# Altium integrated library Linear Technology Power Management Switching Regulator LTC1174-LTC3901.IntLib: 2647 symbols (part 257 of 364)
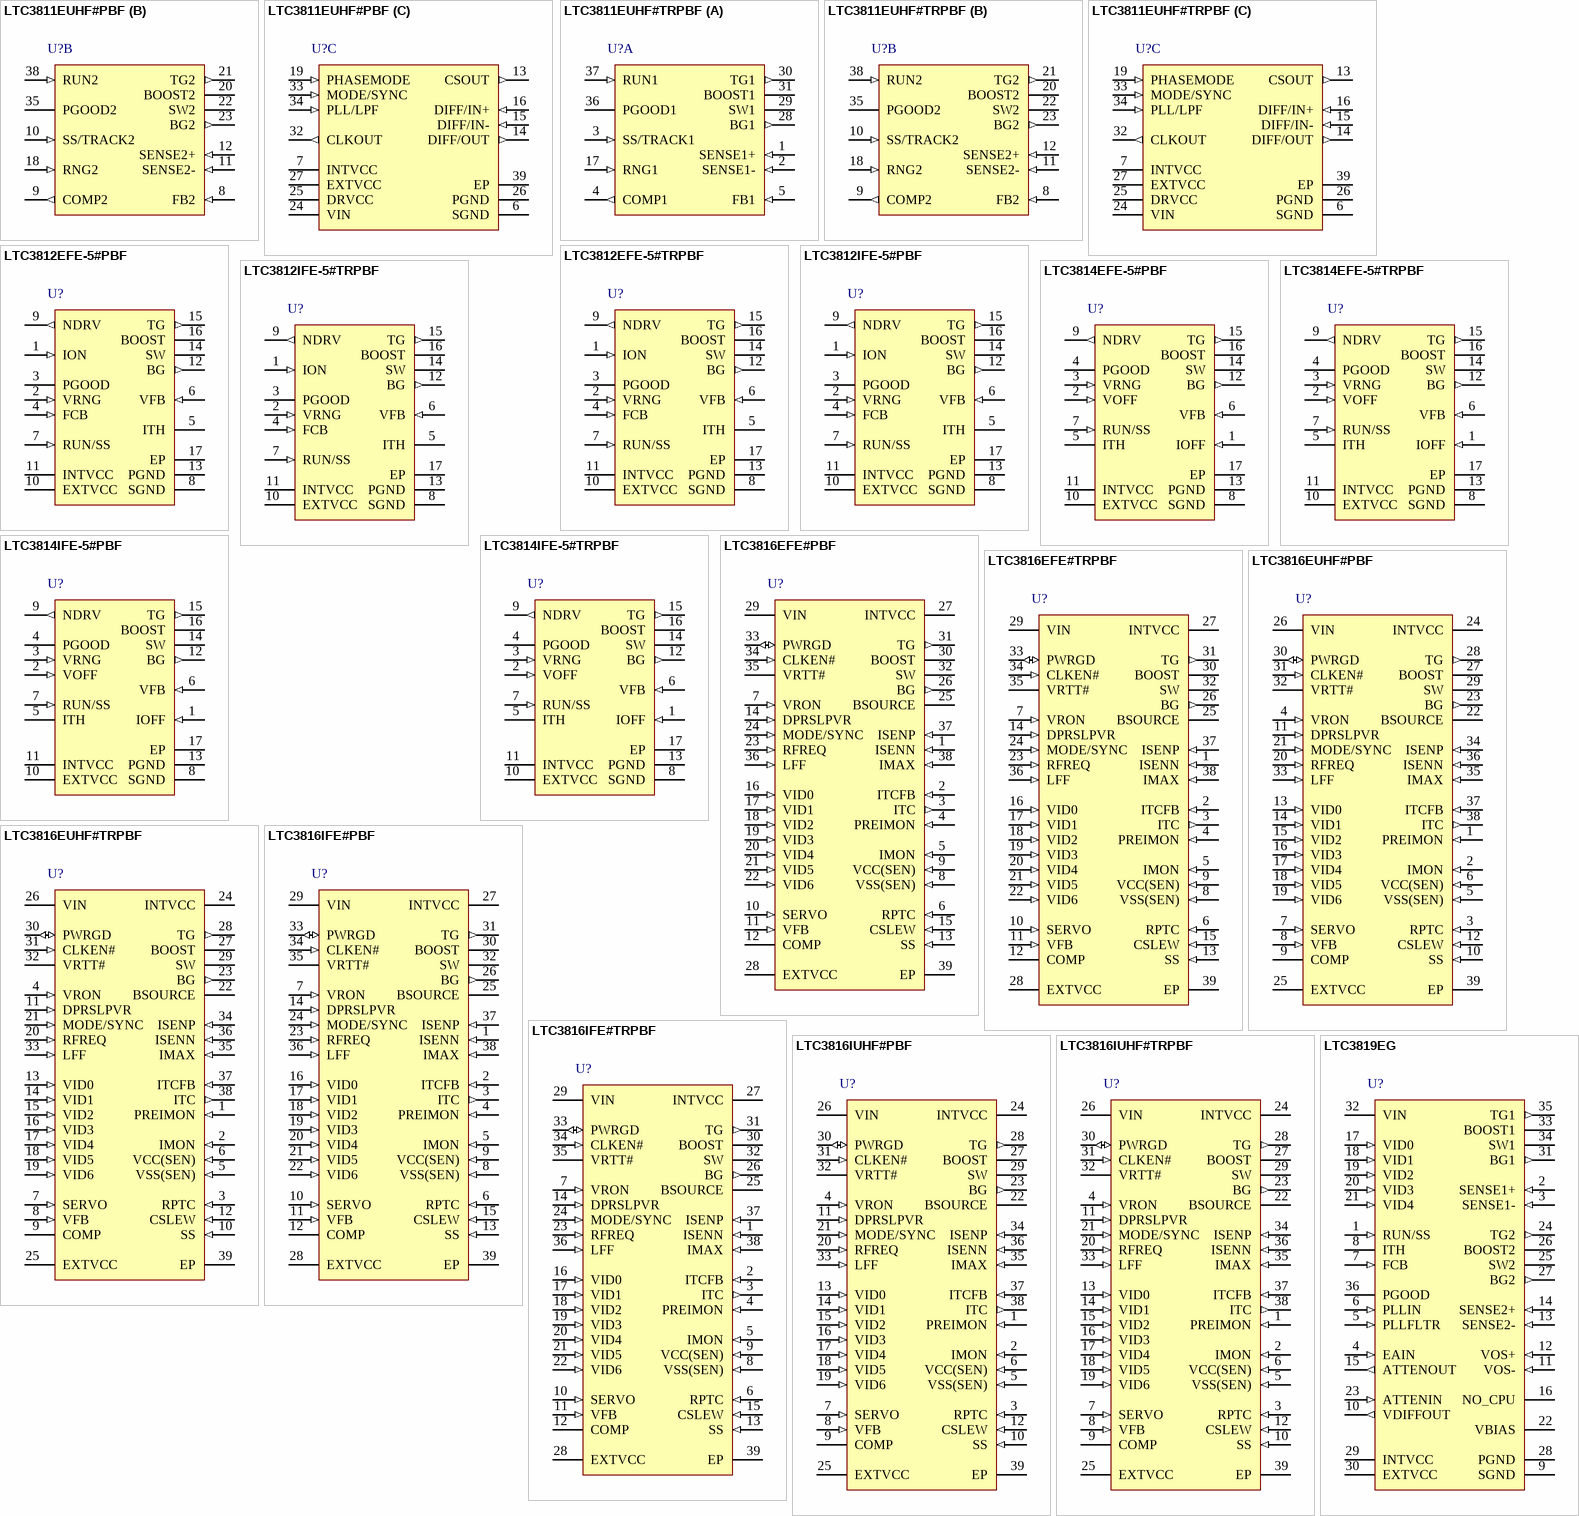
[diagram p248: symbols LTC3811EUHF#PBF to LTC3819EG]

## LTC3814IFE-5#PBF
designator U?
Current Mode Synchronous Step-Up Controller, 16-pin SOP (FE-16-EPV-BA), -40 to 125 degC, Pb-Free; Manufacturer: Linear Technology; PartNumber: LTC3814IFE-5#PBF; Frequency Sync Range: 100kHz - 1MHz; Number of Outputs: 1; DatasheetVersion: Rev. C; PackageVersion: Rev. I, 05/2011; PackageReference: FE-16; PackageDescription: 16-Pin Plastic TSSOP, Body 5 x 4.4 mm, Pitch 0.65 mm; Supplier 1: Digi-Key; Supplier Part Number 1: LTC3814IFE-5#PBF-ND; Supplier 2: Newark; Supplier Part Number 2: 01N6414; RoHS: TRUE; Mounting Technology: Surface Mount; ComponentLink1Description: Manufacturer URL; ComponentLink1URL: http://www.linear.com/; ComponentLink2Description: Datasheet; ComponentLink2URL: http://cds.linear.com/docs/en/datasheet/38145fc.pdf; ComponentLink3Description: Package Specification; ComponentLink3URL: http://cds.linear.com/docs/en/packaging/05081663_J_FE16(BA).pdf
footprint LT-FE-16-EPV-BA_N (SOP, 16-Leads, Body 5x4.4mm, Pitch 0.65mm, Thermal Pad 2.74x2.74mm, IPC Medium Density)
footprint LT-FE-16-EPV-BA_L (SOP, 16-Leads, Body 5x4.4mm, Pitch 0.65mm, Thermal Pad 2.74x2.74mm, IPC High Density)
footprint LT-FE-16-EPV-BA_M (SOP, 16-Leads, Body 5x4.4mm, Pitch 0.65mm, Thermal Pad 2.74x2.74mm, IPC Low Density)
pins: 1 IOFF (in) "Off-Time Current Input. Tie a resistor from VOUT to this pin to set the one-shot timer current and thereby set the switching frequency.", 2 VOFF (in) "Off-Time Voltage Input. Voltage trip point for the on-time comparator. Tying this pin to an external resistive divider from the input makes the off-time proportional to VIN. The comparator defaults to 0.7V when the pin is (See Datasheet)", 3 VRNG (in) "Sense Voltage Limit Set. The voltage at this pin sets the nominal sense voltage at maximum output current and can be set from 0.5V to 2V by a resistive divider from INTVCC. The nominal sense voltage defaults to 95mV when (See Datasheet)", 4 PGOOD (oc) "Power Good Output. Open-drain logic output that is pulled to ground when the output voltage is not between +/-10% of the regulation point. The output voltage must be out of regulation for at least 125us before the power good (See Datasheet)", 5 ITH "Error Amplifier Compensation Point and Current Control Threshold. The current comparator threshold increases with control voltage. The voltage ranges from 0V to 2.6V with 1.2V corresponding to zero sense voltage (zero (See Datasheet)", 6 VFB (in) "Feedback Input. Connect VFB through a resistor divider network to VOUT to set the output voltage.", 7 RUN/SS (in) "RUN/Soft-Start Input. For soft-start, a capacitor to ground at this pin sets the ramp rate of the maximum current sense threshold. Pulling this pin below 0.9V will shut down the LTC3814-5, turn off both of the external (See Datasheet)", 8 SGND (power) "Signal Ground. All small-signal components should connect to this ground and eventually connect to PGND at one point.", 9 NDRV (out) "Drive Output for External Pass Device of the Linear Regulator for INTVCC. Connect to the gate of an external NMOS pass device and a pull-up resistor to the input voltage VIN or the output voltage VOUT.", 10 EXTVCC (power) "External Driver Supply Voltage. When this voltage exceeds 4.7V, an internal switch connects this pin to INTVCC through an LDO and turns off the external MOSFET connected to NDRV, so that controller and gate drive are drawn (See Datasheet)", 11 INTVCC (power) "Main Supply and Driver Supply Pin. All internal circuits and bottom gate output driver are powered from this pin. INTVCC should be bypassed to SGND and PGND with a low ESR (X5R or better) 1uF capacitor in close proximity to (See Datasheet)", 12 BG (out) "Bottom Gate Drive. The BG pin drives the gate of the bottom N-channel main switch MOSFET. This pin swings from PGND to INTVCC.", 13 PGND (power) "Bottom Gate Return. This pin connects to the source of the pull-down MOSFET in the BG driver and is normally connected to ground.", 14 SW "Switch Node Connection to Inductor and Bootstrap Capacitor. Voltage swing at this pin is from a Schottky diode (external) voltage drop below ground to VOUT.", 15 TG (out) "Top Gate Drive. The TG pin drives the gate of the top N-channel synchronous switch MOSFET. The TG driver draws power from the BOOST pin and returns to the SW pin, providing true floating drive to the top MOSFET.", 16 BOOST "Top Gate Driver Supply. The BOOST pin supplies power to the floating TG driver. BOOST should be bypassed to SW with a low ESR (X5R or better) 0.1uF capacitor. An additional fast recovery diode from INTVCC to the BOOST pin (See Datasheet)", 17 EP (power) "Ground. The Exposed Pad must be soldered to PCB ground."

## LTC3814IFE-5#TRPBF
designator U?
Current Mode Synchronous Step-Up Controller, 16-pin SOP (FE-16-EPV-BA), -40 to 125 degC, Pb-Free, Tape and Reel; Manufacturer: Linear Technology; PartNumber: LTC3814IFE-5#TRPBF; Frequency Sync Range: 100kHz - 1MHz; Number of Outputs: 1; DatasheetVersion: Rev. C; PackageVersion: Rev. I, 05/2011; PackageReference: FE-16; PackageDescription: 16-Pin Plastic TSSOP, Body 5 x 4.4 mm, Pitch 0.65 mm; Supplier 1: Digi-Key; Supplier Part Number 1: LTC3814IFE-5#TRPBF-ND; Supplier 2: Newark; Supplier Part Number 2: 01N6415; Packing: Tape and Reel; RoHS: TRUE; Mounting Technology: Surface Mount; ComponentLink1Description: Manufacturer URL; ComponentLink1URL: http://www.linear.com/; ComponentLink2Description: Datasheet; ComponentLink2URL: http://cds.linear.com/docs/en/datasheet/38145fc.pdf; ComponentLink3Description: Package Specification; ComponentLink3URL: http://cds.linear.com/docs/en/packaging/05081663_J_FE16(BA).pdf
footprint LT-FE-16-EPV-BA_N (SOP, 16-Leads, Body 5x4.4mm, Pitch 0.65mm, Thermal Pad 2.74x2.74mm, IPC Medium Density)
footprint LT-FE-16-EPV-BA_L (SOP, 16-Leads, Body 5x4.4mm, Pitch 0.65mm, Thermal Pad 2.74x2.74mm, IPC High Density)
footprint LT-FE-16-EPV-BA_M (SOP, 16-Leads, Body 5x4.4mm, Pitch 0.65mm, Thermal Pad 2.74x2.74mm, IPC Low Density)
pins: 1 IOFF (in) "Off-Time Current Input. Tie a resistor from VOUT to this pin to set the one-shot timer current and thereby set the switching frequency.", 2 VOFF (in) "Off-Time Voltage Input. Voltage trip point for the on-time comparator. Tying this pin to an external resistive divider from the input makes the off-time proportional to VIN. The comparator defaults to 0.7V when the pin is (See Datasheet)", 3 VRNG (in) "Sense Voltage Limit Set. The voltage at this pin sets the nominal sense voltage at maximum output current and can be set from 0.5V to 2V by a resistive divider from INTVCC. The nominal sense voltage defaults to 95mV when (See Datasheet)", 4 PGOOD (oc) "Power Good Output. Open-drain logic output that is pulled to ground when the output voltage is not between +/-10% of the regulation point. The output voltage must be out of regulation for at least 125us before the power good (See Datasheet)", 5 ITH "Error Amplifier Compensation Point and Current Control Threshold. The current comparator threshold increases with control voltage. The voltage ranges from 0V to 2.6V with 1.2V corresponding to zero sense voltage (zero (See Datasheet)", 6 VFB (in) "Feedback Input. Connect VFB through a resistor divider network to VOUT to set the output voltage.", 7 RUN/SS (in) "RUN/Soft-Start Input. For soft-start, a capacitor to ground at this pin sets the ramp rate of the maximum current sense threshold. Pulling this pin below 0.9V will shut down the LTC3814-5, turn off both of the external (See Datasheet)", 8 SGND (power) "Signal Ground. All small-signal components should connect to this ground and eventually connect to PGND at one point.", 9 NDRV (out) "Drive Output for External Pass Device of the Linear Regulator for INTVCC. Connect to the gate of an external NMOS pass device and a pull-up resistor to the input voltage VIN or the output voltage VOUT.", 10 EXTVCC (power) "External Driver Supply Voltage. When this voltage exceeds 4.7V, an internal switch connects this pin to INTVCC through an LDO and turns off the external MOSFET connected to NDRV, so that controller and gate drive are drawn (See Datasheet)", 11 INTVCC (power) "Main Supply and Driver Supply Pin. All internal circuits and bottom gate output driver are powered from this pin. INTVCC should be bypassed to SGND and PGND with a low ESR (X5R or better) 1uF capacitor in close proximity to (See Datasheet)", 12 BG (out) "Bottom Gate Drive. The BG pin drives the gate of the bottom N-channel main switch MOSFET. This pin swings from PGND to INTVCC.", 13 PGND (power) "Bottom Gate Return. This pin connects to the source of the pull-down MOSFET in the BG driver and is normally connected to ground.", 14 SW "Switch Node Connection to Inductor and Bootstrap Capacitor. Voltage swing at this pin is from a Schottky diode (external) voltage drop below ground to VOUT.", 15 TG (out) "Top Gate Drive. The TG pin drives the gate of the top N-channel synchronous switch MOSFET. The TG driver draws power from the BOOST pin and returns to the SW pin, providing true floating drive to the top MOSFET.", 16 BOOST "Top Gate Driver Supply. The BOOST pin supplies power to the floating TG driver. BOOST should be bypassed to SW with a low ESR (X5R or better) 0.1uF capacitor. An additional fast recovery diode from INTVCC to the BOOST pin (See Datasheet)", 17 EP (power) "Ground. The Exposed Pad must be soldered to PCB ground."

## LTC3816EFE#PBF
designator U?
Single-Phase Wide VIN Range DC/DC Controller for Intel IMVP-6 / IMVP-6.5 CPUs, 38-pin SOP (FE-38-EPV-AA), -40 to 125 degC, Pb-Free; Manufacturer: Linear Technology; PartNumber: LTC3816EFE#PBF; Frequency Sync Range: 150kHz - 550kHz; Number of Outputs: 1; PackageVersion: Rev. C, 09/2010; PackageReference: FE-38; PackageDescription: 38-Pin Plastic TSSOP, Body 9.7 x 4.4 mm, Pitch 0.5 mm; Supplier 1: Digi-Key; Supplier Part Number 1: LTC3816EFE#PBF-ND; Supplier 2: Farnell; Supplier Part Number 2: 1847622; Supplier 3: Newark; Supplier Part Number 3: 84R4976; RoHS: TRUE; Mounting Technology: Surface Mount; ComponentLink1Description: Manufacturer URL; ComponentLink1URL: http://www.linear.com/; ComponentLink2Description: Datasheet; ComponentLink2URL: http://cds.linear.com/docs/en/datasheet/3816f.pdf; ComponentLink3Description: Package Specification; ComponentLink3URL: http://cds.linear.com/docs/en/packaging/TSSOP_38_05-08-1772.pdf
footprint LT-FE-38-EPV-AA_N (SOP, 38-Leads, Body 9.8x4.5mm, Pitch 0.5mm, Thermal Pad 4.75x2.74mm, IPC Medium Density)
footprint LT-FE-38-EPV-AA_L (SOP, 38-Leads, Body 9.8x4.5mm, Pitch 0.5mm, Thermal Pad 4.75x2.74mm, IPC High Density)
footprint LT-FE-38-EPV-AA_M (SOP, 38-Leads, Body 9.8x4.5mm, Pitch 0.5mm, Thermal Pad 4.75x2.74mm, IPC Low Density)
pins: 1 ISENN (in) "Current Sense Negative Input. Connect this pin to the negative terminal of the current sense resistor or the negative terminal of the inductor DCR lowpass filter.", 2 ITCFB (in) "Inductor DCR Temperature Compensation Amplifer Feedback Input. To derive the temperature compensated voltage dropped across the inductor DCR, connect a resistor from the SW node to this pin. An NTC network, in parallel with (See Datasheet)", 3 ITC (out) "Inductor DCR Temperature Compensation Amplifer Output. The IMON circuitry and the error amplifier obtain the temperature compensated DCR voltage through this amplifier.", 4 PREIMON (in) "IMON Current Output Setting. PREIMON is servoed to the ISENN potential. A resistor from PREIMON to ITC sets the IMON output current. For the IMVP-6 configuration, connect this pin to INTVCC.", 5 IMON (in) "IMVP-6/IMVP-6.5 Configuration Selection and Output Current Monitor. Connect this pin to INTVCC to select the IMVP-6 configuration. At start-up, the switcher VOUT is ramped to 1.2V (VBOOT). In deeper sleep mode, the (See Datasheet)", 6 RPTC (in) "Nonlinear PTC Thermistor Input. Connect to a nonlinear PTC thermistor for MOSFET or inductor temperature sensing. This pin is pulled up by a 100uA current source. If the potential at RPTC is higher than 0.47V, thermal flag (See Datasheet)", 7 VRON (in) "Voltage Regulator Enable Input. The VRON pin power-up threshold is 1.2V. When forced below 0.65V, a power-down sequence is initiated where the VCC(CORE) output is ramped down near 0V before the IC is put into a low current (See Datasheet)", 8 VSS(SEN) (in) "Processor VCC(CORE) Negative Terminal Voltage Sense. Negative input of the differential sense amplifier. Connect to the processor VSS(SEN) pin.", 9 VCC(SEN) (in) "Processor VCC(CORE) Positive Terminal Voltage Sense. Positive input of the differential sense amplifier. Connect to the processor VCC(SEN) pin.", 10 SERVO (in) "Error Amplifier AC Input. The controller servos the switcher output voltage to the VID DAC voltage through the error amplifier.", 11 VFB (in) "Error Amplifier Negative Input Pin. VFB is servoed to 1.3V.", 12 COMP "Error Amplifier Output. The COMP pin is connected directly to the error amplifier output and the input of the line feedforward circuit. Use an RC network between the COMP pin and the VFB pin to compensate the feedback loop (See Datasheet)", 13 SS (in) "Soft-Start Input. The SS pin has an internal 1uA current source pull-up. A capacitor connected to this pin controls the output voltage start-up. SS is forced low if VRON or PWRGD is low, or if an overvoltage or overcurrent (See Datasheet)", 14 DPRSLPVR (in) "Deeper Sleep Mode. For the IMVP-6 configuration, 25us after DPRSLPVR is asserted high, the controller enables the VOUT slow slew rate transition. To disable slow slew rate mode, force DPRSLPVR low. Upon power-up, the (See Datasheet)", 15 CSLEW (in) "VID DAC Slew Rate Control. CSLEW is internally pulled up by a current source. Add a capacitor to program the VID DAC transition slew rate. If slow slew rate is selected, a 100pF capacitor connected to CSLEW results in a VID (See Datasheet)", 16 VID0 (in) "VID DAC Voltage Control Logic Inputs. See Table 1.", 17 VID1 (in) "VID DAC Voltage Control Logic Inputs. See Table 1.", 18 VID2 (in) "VID DAC Voltage Control Logic Inputs. See Table 1.", 19 VID3 (in) "VID DAC Voltage Control Logic Inputs. See Table 1.", 20 VID4 (in) "VID DAC Voltage Control Logic Inputs. See Table 1.", 21 VID5 (in) "VID DAC Voltage Control Logic Inputs. See Table 1.", 22 VID6 (in) "VID DAC Voltage Control Logic Inputs. See Table 1.", 23 RFREQ (in) "Frequency Setting. The voltage on the RFREQ pin determines the free-running operating frequency. The RFREQ pin has an internal 10uA current source pull-up allowing the switching frequency to be programmed by a single (See Datasheet)", 24 MODE/SYNC (in) "Mode Select/Synchronization Input. This pin is pulled up by an internal 1uA current source. Floating this pin or shorting it to INTVCC enables pulse-skipping mode. Shorting this pin to ground configures forced continuous (See Datasheet)", 25 BSOURCE (power) "Bottom MOSFET Source. Connect this pin to the source of the bottom power MOSFET. Do not short BSOURCE to the LTC3816 exposed pad directly.", 26 BG (out) "Bottom Gate Drive. The BG pin drives the gate of the bottom N-channel synchronous switch MOSFET.", 27 INTVCC (power) "Output of the Internal Linear Low Dropout Regulator. The driver and control circuits are powered from this voltage source. The INTVCC pin must be decoupled to GND with a minimum 4.7uF low ESR ceramic capacitor (X5R or (See Datasheet)", 28 EXTVCC (power) "External Power Input to an Internal Switch Connected to INTVCC. This switch closes and supplies the IC power, bypassing the internal low dropout regulator, whenever EXTVCC is higher than 4.5V. Do not exceed 6V on this pin.", 29 VIN (power) "Main Supply Pin. A bypass capacitor should be connected from this pin to the GND pin.", 30 BOOST "Top Gate Driver Supply. The BOOST pin should be decoupled to the SW node with a 0.1uF low ESR (X5R or better) ceramic capacitor. An external Schottky diode from INTVCC to BOOST creates a complete floating charge-pumped (See Datasheet)", 31 TG (out) "Top Gate Drive. The TG pin drives the top N-channel MOSFET with a voltage swing equal to INTVCC superimposed on the switch node voltage.", 32 SW "Switching Node. Connect SW to the source of the upper power MOSFET and to the negative terminal of the BOOST pin decoupling capacitor", 33 PWRGD (io) "Open-Drain Power Good Output/ Power Bad Latchoff Input. PWRGD is an open-drain output pin and can be connected to other open-drain outputs to implement wire-ORing. PWRGD is externally pulled high 10ms after the output (See Datasheet)", 34 CLKEN# (in) "Open-Drain Clock Enable Indicator. 75us after VCC(CORE) reaches the VBOOT voltage, CLKEN# pulls low to enable the processor phase-locked loop.", 35 VRTT# (oc) "Open-Drain Output for Voltage Regulator Thermal Throttling. The VRTT# pin pulls low if the RPTC voltage exceeds 0.47V or if the control IC junction temperature exceeds 150degreesC.", 36 LFF (in) "Line Feedforward. This pin has a 1uA pull-up current source to INTVCC. Floating this pin or connecting it to INTVCC enables the line feedforward compensation. Connect this pin to GND to disable the line feedforward (See Datasheet)", 37 ISENP (in) "Current Sense Positive Input. Connect this pin to the positive terminal of the current sense resistor or to the output of the inductor DCR lowpass filter.", 38 IMAX (in) "Current Comparator Threshold Setting. The IMAX pin has an internal 10uA pull-up current source, allowing the current limit comparator threshold to be programmed by a single external resistor. The controller allows a (See Datasheet)", 39 EP (power) "Ground. The soft-start and slew rate control capacitors as well as the frequency setting and thermal shutdown resistors should return to this exposed pad ground pin. This GND pin should also be connected to the negative (See Datasheet)"

## LTC3816EFE#TRPBF
designator U?
Single-Phase Wide VIN Range DC/DC Controller for Intel IMVP-6 / IMVP-6.5 CPUs, 38-pin SOP (FE-38-EPV-AA), -40 to 125 degC, Pb-Free, Tape and Reel; Manufacturer: Linear Technology; PartNumber: LTC3816EFE#TRPBF; Frequency Sync Range: 150kHz - 550kHz; Number of Outputs: 1; PackageVersion: Rev. C, 09/2010; PackageReference: FE-38; PackageDescription: 38-Pin Plastic TSSOP, Body 9.7 x 4.4 mm, Pitch 0.5 mm; Supplier 1: Digi-Key; Supplier Part Number 1: LTC3816EFE#TRPBF-ND; Packing: Tape and Reel; RoHS: TRUE; Mounting Technology: Surface Mount; ComponentLink1Description: Manufacturer URL; ComponentLink1URL: http://www.linear.com/; ComponentLink2Description: Datasheet; ComponentLink2URL: http://cds.linear.com/docs/en/datasheet/3816f.pdf; ComponentLink3Description: Package Specification; ComponentLink3URL: http://cds.linear.com/docs/en/packaging/TSSOP_38_05-08-1772.pdf
footprint LT-FE-38-EPV-AA_N (SOP, 38-Leads, Body 9.8x4.5mm, Pitch 0.5mm, Thermal Pad 4.75x2.74mm, IPC Medium Density)
footprint LT-FE-38-EPV-AA_L (SOP, 38-Leads, Body 9.8x4.5mm, Pitch 0.5mm, Thermal Pad 4.75x2.74mm, IPC High Density)
footprint LT-FE-38-EPV-AA_M (SOP, 38-Leads, Body 9.8x4.5mm, Pitch 0.5mm, Thermal Pad 4.75x2.74mm, IPC Low Density)
pins: 1 ISENN (in) "Current Sense Negative Input. Connect this pin to the negative terminal of the current sense resistor or the negative terminal of the inductor DCR lowpass filter.", 2 ITCFB (in) "Inductor DCR Temperature Compensation Amplifer Feedback Input. To derive the temperature compensated voltage dropped across the inductor DCR, connect a resistor from the SW node to this pin. An NTC network, in parallel with (See Datasheet)", 3 ITC (out) "Inductor DCR Temperature Compensation Amplifer Output. The IMON circuitry and the error amplifier obtain the temperature compensated DCR voltage through this amplifier.", 4 PREIMON (in) "IMON Current Output Setting. PREIMON is servoed to the ISENN potential. A resistor from PREIMON to ITC sets the IMON output current. For the IMVP-6 configuration, connect this pin to INTVCC.", 5 IMON (in) "IMVP-6/IMVP-6.5 Configuration Selection and Output Current Monitor. Connect this pin to INTVCC to select the IMVP-6 configuration. At start-up, the switcher VOUT is ramped to 1.2V (VBOOT). In deeper sleep mode, the (See Datasheet)", 6 RPTC (in) "Nonlinear PTC Thermistor Input. Connect to a nonlinear PTC thermistor for MOSFET or inductor temperature sensing. This pin is pulled up by a 100uA current source. If the potential at RPTC is higher than 0.47V, thermal flag (See Datasheet)", 7 VRON (in) "Voltage Regulator Enable Input. The VRON pin power-up threshold is 1.2V. When forced below 0.65V, a power-down sequence is initiated where the VCC(CORE) output is ramped down near 0V before the IC is put into a low current (See Datasheet)", 8 VSS(SEN) (in) "Processor VCC(CORE) Negative Terminal Voltage Sense. Negative input of the differential sense amplifier. Connect to the processor VSS(SEN) pin.", 9 VCC(SEN) (in) "Processor VCC(CORE) Positive Terminal Voltage Sense. Positive input of the differential sense amplifier. Connect to the processor VCC(SEN) pin.", 10 SERVO (in) "Error Amplifier AC Input. The controller servos the switcher output voltage to the VID DAC voltage through the error amplifier.", 11 VFB (in) "Error Amplifier Negative Input Pin. VFB is servoed to 1.3V.", 12 COMP "Error Amplifier Output. The COMP pin is connected directly to the error amplifier output and the input of the line feedforward circuit. Use an RC network between the COMP pin and the VFB pin to compensate the feedback loop (See Datasheet)", 13 SS (in) "Soft-Start Input. The SS pin has an internal 1uA current source pull-up. A capacitor connected to this pin controls the output voltage start-up. SS is forced low if VRON or PWRGD is low, or if an overvoltage or overcurrent (See Datasheet)", 14 DPRSLPVR (in) "Deeper Sleep Mode. For the IMVP-6 configuration, 25us after DPRSLPVR is asserted high, the controller enables the VOUT slow slew rate transition. To disable slow slew rate mode, force DPRSLPVR low. Upon power-up, the (See Datasheet)", 15 CSLEW (in) "VID DAC Slew Rate Control. CSLEW is internally pulled up by a current source. Add a capacitor to program the VID DAC transition slew rate. If slow slew rate is selected, a 100pF capacitor connected to CSLEW results in a VID (See Datasheet)", 16 VID0 (in) "VID DAC Voltage Control Logic Inputs. See Table 1.", 17 VID1 (in) "VID DAC Voltage Control Logic Inputs. See Table 1.", 18 VID2 (in) "VID DAC Voltage Control Logic Inputs. See Table 1.", 19 VID3 (in) "VID DAC Voltage Control Logic Inputs. See Table 1.", 20 VID4 (in) "VID DAC Voltage Control Logic Inputs. See Table 1.", 21 VID5 (in) "VID DAC Voltage Control Logic Inputs. See Table 1.", 22 VID6 (in) "VID DAC Voltage Control Logic Inputs. See Table 1.", 23 RFREQ (in) "Frequency Setting. The voltage on the RFREQ pin determines the free-running operating frequency. The RFREQ pin has an internal 10uA current source pull-up allowing the switching frequency to be programmed by a single (See Datasheet)", 24 MODE/SYNC (in) "Mode Select/Synchronization Input. This pin is pulled up by an internal 1uA current source. Floating this pin or shorting it to INTVCC enables pulse-skipping mode. Shorting this pin to ground configures forced continuous (See Datasheet)", 25 BSOURCE (power) "Bottom MOSFET Source. Connect this pin to the source of the bottom power MOSFET. Do not short BSOURCE to the LTC3816 exposed pad directly.", 26 BG (out) "Bottom Gate Drive. The BG pin drives the gate of the bottom N-channel synchronous switch MOSFET.", 27 INTVCC (power) "Output of the Internal Linear Low Dropout Regulator. The driver and control circuits are powered from this voltage source. The INTVCC pin must be decoupled to GND with a minimum 4.7uF low ESR ceramic capacitor (X5R or (See Datasheet)", 28 EXTVCC (power) "External Power Input to an Internal Switch Connected to INTVCC. This switch closes and supplies the IC power, bypassing the internal low dropout regulator, whenever EXTVCC is higher than 4.5V. Do not exceed 6V on this pin.", 29 VIN (power) "Main Supply Pin. A bypass capacitor should be connected from this pin to the GND pin.", 30 BOOST "Top Gate Driver Supply. The BOOST pin should be decoupled to the SW node with a 0.1uF low ESR (X5R or better) ceramic capacitor. An external Schottky diode from INTVCC to BOOST creates a complete floating charge-pumped (See Datasheet)", 31 TG (out) "Top Gate Drive. The TG pin drives the top N-channel MOSFET with a voltage swing equal to INTVCC superimposed on the switch node voltage.", 32 SW "Switching Node. Connect SW to the source of the upper power MOSFET and to the negative terminal of the BOOST pin decoupling capacitor", 33 PWRGD (io) "Open-Drain Power Good Output/ Power Bad Latchoff Input. PWRGD is an open-drain output pin and can be connected to other open-drain outputs to implement wire-ORing. PWRGD is externally pulled high 10ms after the output (See Datasheet)", 34 CLKEN# (in) "Open-Drain Clock Enable Indicator. 75us after VCC(CORE) reaches the VBOOT voltage, CLKEN# pulls low to enable the processor phase-locked loop.", 35 VRTT# (oc) "Open-Drain Output for Voltage Regulator Thermal Throttling. The VRTT# pin pulls low if the RPTC voltage exceeds 0.47V or if the control IC junction temperature exceeds 150degreesC.", 36 LFF (in) "Line Feedforward. This pin has a 1uA pull-up current source to INTVCC. Floating this pin or connecting it to INTVCC enables the line feedforward compensation. Connect this pin to GND to disable the line feedforward (See Datasheet)", 37 ISENP (in) "Current Sense Positive Input. Connect this pin to the positive terminal of the current sense resistor or to the output of the inductor DCR lowpass filter.", 38 IMAX (in) "Current Comparator Threshold Setting. The IMAX pin has an internal 10uA pull-up current source, allowing the current limit comparator threshold to be programmed by a single external resistor. The controller allows a (See Datasheet)", 39 EP (power) "Ground. The soft-start and slew rate control capacitors as well as the frequency setting and thermal shutdown resistors should return to this exposed pad ground pin. This GND pin should also be connected to the negative (See Datasheet)"

## LTC3816EUHF#PBF
designator U?
Single-Phase Wide VIN Range DC/DC Controller for Intel IMVP-6 / IMVP-6.5 CPUs, 38-pin QFN (UHF-38), -40 to 125 degC, Pb-Free; Manufacturer: Linear Technology; PartNumber: LTC3816EUHF#PBF; Frequency Sync Range: 150kHz - 550kHz; Number of Outputs: 1; PackageVersion: Rev. C, 06/2010; PackageReference: UHF-38; PackageDescription: 38-Pin Plastic QFN, Body 7 x 5 mm, Pitch 0.5 mm; Supplier 1: Digi-Key; Supplier Part Number 1: LTC3816EUHF#PBF-ND; Supplier 2: Farnell; Supplier Part Number 2: 1847623; Supplier 3: Newark; Supplier Part Number 3: 84R4978; RoHS: TRUE; Mounting Technology: Surface Mount; Code_JEDEC: MO-220; ComponentLink1Description: Manufacturer URL; ComponentLink1URL: http://www.linear.com/; ComponentLink2Description: Datasheet; ComponentLink2URL: http://cds.linear.com/docs/en/datasheet/3816f.pdf; ComponentLink3Description: Package Specification; ComponentLink3URL: http://cds.linear.com/docs/en/packaging/QFN_38_05-08-1701.pdf
footprint LT-UHF-38_N (QFN, 38-Leads, Body 7.1x5.1mm, Pitch 0.5mm, Thermal Pad 3.15x5.15mm, IPC Medium Density)
footprint LT-UHF-38_L (QFN, 38-Leads, Body 7.1x5.1mm, Pitch 0.5mm, Thermal Pad 3.15x5.15mm, IPC High Density)
footprint LT-UHF-38_M (QFN, 38-Leads, Body 7.1x5.1mm, Pitch 0.5mm, Thermal Pad 3.15x5.15mm, IPC Low Density)
pins: 1 PREIMON (in) "IMON Current Output Setting. PREIMON is servoed to the ISENN potential. A resistor from PREIMON to ITC sets the IMON output current. For the IMVP-6 configuration, connect this pin to INTVCC.", 2 IMON (in) "IMVP-6/IMVP-6.5 Configuration Selection and Output Current Monitor. Connect this pin to INTVCC to select the IMVP-6 configuration. At start-up, the switcher VOUT is ramped to 1.2V (VBOOT). In deeper sleep mode, the (See Datasheet)", 3 RPTC (in) "Nonlinear PTC Thermistor Input. Connect to a nonlinear PTC thermistor for MOSFET or inductor temperature sensing. This pin is pulled up by a 100uA current source. If the potential at RPTC is higher than 0.47V, thermal flag (See Datasheet)", 4 VRON (in) "Voltage Regulator Enable Input. The VRON pin power-up threshold is 1.2V. When forced below 0.65V, a power-down sequence is initiated where the VCC(CORE) output is ramped down near 0V before the IC is put into a low current (See Datasheet)", 5 VSS(SEN) (in) "Processor VCC(CORE) Negative Terminal Voltage Sense. Negative input of the differential sense amplifier. Connect to the processor VSS(SEN) pin.", 6 VCC(SEN) (in) "Processor VCC(CORE) Positive Terminal Voltage Sense. Positive input of the differential sense amplifier. Connect to the processor VCC(SEN) pin.", 7 SERVO (in) "Error Amplifier AC Input. The controller servos the switcher output voltage to the VID DAC voltage through the error amplifier.", 8 VFB (in) "Error Amplifier Negative Input Pin. VFB is servoed to 1.3V.", 9 COMP "Error Amplifier Output. The COMP pin is connected directly to the error amplifier output and the input of the line feedforward circuit. Use an RC network between the COMP pin and the VFB pin to compensate the feedback loop (See Datasheet)", 10 SS (in) "Soft-Start Input. The SS pin has an internal 1uA current source pull-up. A capacitor connected to this pin controls the output voltage start-up. SS is forced low if VRON or PWRGD is low, or if an overvoltage or overcurrent (See Datasheet)", 11 DPRSLPVR (in) "Deeper Sleep Mode. For the IMVP-6 configuration, 25us after DPRSLPVR is asserted high, the controller enables the VOUT slow slew rate transition. To disable slow slew rate mode, force DPRSLPVR low. Upon power-up, the (See Datasheet)", 12 CSLEW (in) "VID DAC Slew Rate Control. CSLEW is internally pulled up by a current source. Add a capacitor to program the VID DAC transition slew rate. If slow slew rate is selected, a 100pF capacitor connected to CSLEW results in a VID (See Datasheet)", 13 VID0 (in) "VID DAC Voltage Control Logic Inputs. See Table 1.", 14 VID1 (in) "VID DAC Voltage Control Logic Inputs. See Table 1.", 15 VID2 (in) "VID DAC Voltage Control Logic Inputs. See Table 1.", 16 VID3 (in) "VID DAC Voltage Control Logic Inputs. See Table 1.", 17 VID4 (in) "VID DAC Voltage Control Logic Inputs. See Table 1.", 18 VID5 (in) "VID DAC Voltage Control Logic Inputs. See Table 1.", 19 VID6 (in) "VID DAC Voltage Control Logic Inputs. See Table 1.", 20 RFREQ (in) "Frequency Setting. The voltage on the RFREQ pin determines the free-running operating frequency. The RFREQ pin has an internal 10uA current source pull-up allowing the switching frequency to be programmed by a single (See Datasheet)", 21 MODE/SYNC (in) "Mode Select/Synchronization Input. This pin is pulled up by an internal 1uA current source. Floating this pin or shorting it to INTVCC enables pulse-skipping mode. Shorting this pin to ground configures forced continuous (See Datasheet)", 22 BSOURCE (power) "Bottom MOSFET Source. Connect this pin to the source of the bottom power MOSFET. Do not short BSOURCE to the LTC3816 exposed pad directly.", 23 BG (out) "Bottom Gate Drive. The BG pin drives the gate of the bottom N-channel synchronous switch MOSFET.", 24 INTVCC (power) "Output of the Internal Linear Low Dropout Regulator. The driver and control circuits are powered from this voltage source. The INTVCC pin must be decoupled to GND with a minimum 4.7uF low ESR ceramic capacitor (X5R or (See Datasheet)", 25 EXTVCC (power) "External Power Input to an Internal Switch Connected to INTVCC. This switch closes and supplies the IC power, bypassing the internal low dropout regulator, whenever EXTVCC is higher than 4.5V. Do not exceed 6V on this pin.", 26 VIN (power) "Main Supply Pin. A bypass capacitor should be connected from this pin to the GND pin.", 27 BOOST "Top Gate Driver Supply. The BOOST pin should be decoupled to the SW node with a 0.1uF low ESR (X5R or better) ceramic capacitor. An external Schottky diode from INTVCC to BOOST creates a complete floating charge-pumped (See Datasheet)", 28 TG (out) "Top Gate Drive. The TG pin drives the top N-channel MOSFET with a voltage swing equal to INTVCC superimposed on the switch node voltage.", 29 SW "Switching Node. Connect SW to the source of the upper power MOSFET and to the negative terminal of the BOOST pin decoupling capacitor", 30 PWRGD (io) "Open-Drain Power Good Output/ Power Bad Latchoff Input. PWRGD is an open-drain output pin and can be connected to other open-drain outputs to implement wire-ORing. PWRGD is externally pulled high 10ms after the output (See Datasheet)", 31 CLKEN# (in) "Open-Drain Clock Enable Indicator. 75us after VCC(CORE) reaches the VBOOT voltage, CLKEN# pulls low to enable the processor phase-locked loop.", 32 VRTT# (oc) "Open-Drain Output for Voltage Regulator Thermal Throttling. The VRTT# pin pulls low if the RPTC voltage exceeds 0.47V or if the control IC junction temperature exceeds 150degreesC.", 33 LFF (in) "Line Feedforward. This pin has a 1uA pull-up current source to INTVCC. Floating this pin or connecting it to INTVCC enables the line feedforward compensation. Connect this pin to GND to disable the line feedforward (See Datasheet)", 34 ISENP (in) "Current Sense Positive Input. Connect this pin to the positive terminal of the current sense resistor or to the output of the inductor DCR lowpass filter.", 35 IMAX (in) "Current Comparator Threshold Setting. The IMAX pin has an internal 10uA pull-up current source, allowing the current limit comparator threshold to be programmed by a single external resistor. The controller allows a (See Datasheet)", 36 ISENN (in) "Current Sense Negative Input. Connect this pin to the negative terminal of the current sense resistor or the negative terminal of the inductor DCR lowpass filter.", 37 ITCFB (in) "Inductor DCR Temperature Compensation Amplifer Feedback Input. To derive the temperature compensated voltage dropped across the inductor DCR, connect a resistor from the SW node to this pin. An NTC network, in parallel with (See Datasheet)", 38 ITC (out) "Inductor DCR Temperature Compensation Amplifer Output. The IMON circuitry and the error amplifier obtain the temperature compensated DCR voltage through this amplifier.", 39 EP (power) "Ground. The soft-start and slew rate control capacitors as well as the frequency setting and thermal shutdown resistors should return to this exposed pad ground pin. This GND pin should also be connected to the negative (See Datasheet)"

## LTC3816EUHF#TRPBF
designator U?
Single-Phase Wide VIN Range DC/DC Controller for Intel IMVP-6 / IMVP-6.5 CPUs, 38-pin QFN (UHF-38), -40 to 125 degC, Pb-Free, Tape and Reel; Manufacturer: Linear Technology; PartNumber: LTC3816EUHF#TRPBF; Frequency Sync Range: 150kHz - 550kHz; Number of Outputs: 1; PackageVersion: Rev. C, 06/2010; PackageReference: UHF-38; PackageDescription: 38-Pin Plastic QFN, Body 7 x 5 mm, Pitch 0.5 mm; Supplier 1: Digi-Key; Supplier Part Number 1: LTC3816EUHF#TRPBF-ND; Packing: Tape and Reel; RoHS: TRUE; Mounting Technology: Surface Mount; Code_JEDEC: MO-220; ComponentLink1Description: Manufacturer URL; ComponentLink1URL: http://www.linear.com/; ComponentLink2Description: Datasheet; ComponentLink2URL: http://cds.linear.com/docs/en/datasheet/3816f.pdf; ComponentLink3Description: Package Specification; ComponentLink3URL: http://cds.linear.com/docs/en/packaging/QFN_38_05-08-1701.pdf
footprint LT-UHF-38_N (QFN, 38-Leads, Body 7.1x5.1mm, Pitch 0.5mm, Thermal Pad 3.15x5.15mm, IPC Medium Density)
footprint LT-UHF-38_L (QFN, 38-Leads, Body 7.1x5.1mm, Pitch 0.5mm, Thermal Pad 3.15x5.15mm, IPC High Density)
footprint LT-UHF-38_M (QFN, 38-Leads, Body 7.1x5.1mm, Pitch 0.5mm, Thermal Pad 3.15x5.15mm, IPC Low Density)
pins: 1 PREIMON (in) "IMON Current Output Setting. PREIMON is servoed to the ISENN potential. A resistor from PREIMON to ITC sets the IMON output current. For the IMVP-6 configuration, connect this pin to INTVCC.", 2 IMON (in) "IMVP-6/IMVP-6.5 Configuration Selection and Output Current Monitor. Connect this pin to INTVCC to select the IMVP-6 configuration. At start-up, the switcher VOUT is ramped to 1.2V (VBOOT). In deeper sleep mode, the (See Datasheet)", 3 RPTC (in) "Nonlinear PTC Thermistor Input. Connect to a nonlinear PTC thermistor for MOSFET or inductor temperature sensing. This pin is pulled up by a 100uA current source. If the potential at RPTC is higher than 0.47V, thermal flag (See Datasheet)", 4 VRON (in) "Voltage Regulator Enable Input. The VRON pin power-up threshold is 1.2V. When forced below 0.65V, a power-down sequence is initiated where the VCC(CORE) output is ramped down near 0V before the IC is put into a low current (See Datasheet)", 5 VSS(SEN) (in) "Processor VCC(CORE) Negative Terminal Voltage Sense. Negative input of the differential sense amplifier. Connect to the processor VSS(SEN) pin.", 6 VCC(SEN) (in) "Processor VCC(CORE) Positive Terminal Voltage Sense. Positive input of the differential sense amplifier. Connect to the processor VCC(SEN) pin.", 7 SERVO (in) "Error Amplifier AC Input. The controller servos the switcher output voltage to the VID DAC voltage through the error amplifier.", 8 VFB (in) "Error Amplifier Negative Input Pin. VFB is servoed to 1.3V.", 9 COMP "Error Amplifier Output. The COMP pin is connected directly to the error amplifier output and the input of the line feedforward circuit. Use an RC network between the COMP pin and the VFB pin to compensate the feedback loop (See Datasheet)", 10 SS (in) "Soft-Start Input. The SS pin has an internal 1uA current source pull-up. A capacitor connected to this pin controls the output voltage start-up. SS is forced low if VRON or PWRGD is low, or if an overvoltage or overcurrent (See Datasheet)", 11 DPRSLPVR (in) "Deeper Sleep Mode. For the IMVP-6 configuration, 25us after DPRSLPVR is asserted high, the controller enables the VOUT slow slew rate transition. To disable slow slew rate mode, force DPRSLPVR low. Upon power-up, the (See Datasheet)", 12 CSLEW (in) "VID DAC Slew Rate Control. CSLEW is internally pulled up by a current source. Add a capacitor to program the VID DAC transition slew rate. If slow slew rate is selected, a 100pF capacitor connected to CSLEW results in a VID (See Datasheet)", 13 VID0 (in) "VID DAC Voltage Control Logic Inputs. See Table 1.", 14 VID1 (in) "VID DAC Voltage Control Logic Inputs. See Table 1.", 15 VID2 (in) "VID DAC Voltage Control Logic Inputs. See Table 1.", 16 VID3 (in) "VID DAC Voltage Control Logic Inputs. See Table 1.", 17 VID4 (in) "VID DAC Voltage Control Logic Inputs. See Table 1.", 18 VID5 (in) "VID DAC Voltage Control Logic Inputs. See Table 1.", 19 VID6 (in) "VID DAC Voltage Control Logic Inputs. See Table 1.", 20 RFREQ (in) "Frequency Setting. The voltage on the RFREQ pin determines the free-running operating frequency. The RFREQ pin has an internal 10uA current source pull-up allowing the switching frequency to be programmed by a single (See Datasheet)", 21 MODE/SYNC (in) "Mode Select/Synchronization Input. This pin is pulled up by an internal 1uA current source. Floating this pin or shorting it to INTVCC enables pulse-skipping mode. Shorting this pin to ground configures forced continuous (See Datasheet)", 22 BSOURCE (power) "Bottom MOSFET Source. Connect this pin to the source of the bottom power MOSFET. Do not short BSOURCE to the LTC3816 exposed pad directly.", 23 BG (out) "Bottom Gate Drive. The BG pin drives the gate of the bottom N-channel synchronous switch MOSFET.", 24 INTVCC (power) "Output of the Internal Linear Low Dropout Regulator. The driver and control circuits are powered from this voltage source. The INTVCC pin must be decoupled to GND with a minimum 4.7uF low ESR ceramic capacitor (X5R or (See Datasheet)", 25 EXTVCC (power) "External Power Input to an Internal Switch Connected to INTVCC. This switch closes and supplies the IC power, bypassing the internal low dropout regulator, whenever EXTVCC is higher than 4.5V. Do not exceed 6V on this pin.", 26 VIN (power) "Main Supply Pin. A bypass capacitor should be connected from this pin to the GND pin.", 27 BOOST "Top Gate Driver Supply. The BOOST pin should be decoupled to the SW node with a 0.1uF low ESR (X5R or better) ceramic capacitor. An external Schottky diode from INTVCC to BOOST creates a complete floating charge-pumped (See Datasheet)", 28 TG (out) "Top Gate Drive. The TG pin drives the top N-channel MOSFET with a voltage swing equal to INTVCC superimposed on the switch node voltage.", 29 SW "Switching Node. Connect SW to the source of the upper power MOSFET and to the negative terminal of the BOOST pin decoupling capacitor", 30 PWRGD (io) "Open-Drain Power Good Output/ Power Bad Latchoff Input. PWRGD is an open-drain output pin and can be connected to other open-drain outputs to implement wire-ORing. PWRGD is externally pulled high 10ms after the output (See Datasheet)", 31 CLKEN# (in) "Open-Drain Clock Enable Indicator. 75us after VCC(CORE) reaches the VBOOT voltage, CLKEN# pulls low to enable the processor phase-locked loop.", 32 VRTT# (oc) "Open-Drain Output for Voltage Regulator Thermal Throttling. The VRTT# pin pulls low if the RPTC voltage exceeds 0.47V or if the control IC junction temperature exceeds 150degreesC.", 33 LFF (in) "Line Feedforward. This pin has a 1uA pull-up current source to INTVCC. Floating this pin or connecting it to INTVCC enables the line feedforward compensation. Connect this pin to GND to disable the line feedforward (See Datasheet)", 34 ISENP (in) "Current Sense Positive Input. Connect this pin to the positive terminal of the current sense resistor or to the output of the inductor DCR lowpass filter.", 35 IMAX (in) "Current Comparator Threshold Setting. The IMAX pin has an internal 10uA pull-up current source, allowing the current limit comparator threshold to be programmed by a single external resistor. The controller allows a (See Datasheet)", 36 ISENN (in) "Current Sense Negative Input. Connect this pin to the negative terminal of the current sense resistor or the negative terminal of the inductor DCR lowpass filter.", 37 ITCFB (in) "Inductor DCR Temperature Compensation Amplifer Feedback Input. To derive the temperature compensated voltage dropped across the inductor DCR, connect a resistor from the SW node to this pin. An NTC network, in parallel with (See Datasheet)", 38 ITC (out) "Inductor DCR Temperature Compensation Amplifer Output. The IMON circuitry and the error amplifier obtain the temperature compensated DCR voltage through this amplifier.", 39 EP (power) "Ground. The soft-start and slew rate control capacitors as well as the frequency setting and thermal shutdown resistors should return to this exposed pad ground pin. This GND pin should also be connected to the negative (See Datasheet)"